# EAGLE library part WS2801 (library atmega328pb_tqfn)
WS2801 3 Channel Constant Current LED Driver with programmable PWM outputs. Datasheet: http://www.sparkfun.com/datasheets/Components/LED/WS2801.pdf
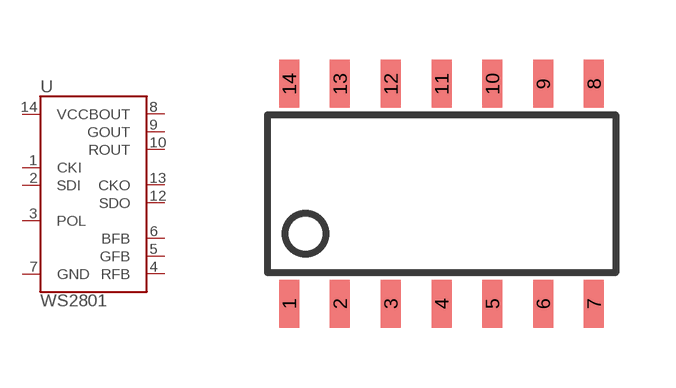
[diagram p76: symbol with the pads of SOP-14; footprint SOP-14]

Designator prefix U

## WS2801  [SOP-14]
1  CKI
2  SDI
3  POL
4  RFB
5  GFB
6  BFB
7  GND
8  BOUT
9  GOUT
10  ROUT
12  SDO
13  CKO
14  VCC

## Footprint SOP-14 (pad centres in mm)
14-pin SOP-14 package Used on WS2801 RGB controller
smd 0.5 x 1.2: 1 -3.81,-2.75; 2 -2.54,-2.75; 3 -1.27,-2.75; 4 0,-2.75; 5 1.27,-2.75; 6 2.54,-2.75; 7 3.81,-2.75; 8 3.81,2.75; 9 2.54,2.75; 10 1.27,2.75; 11 0,2.75; 12 -1.27,2.75; 13 -2.54,2.75; 14 -3.81,2.75